# Altium schematic symbol library Fuses.SchLib: 6 symbols
Pins are listed as number, name and electrical type; pins without a type are passive.

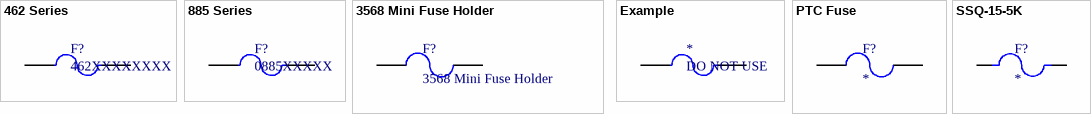
[diagram p0: symbols 462 Series to SSQ-15-5K]

## 462 Series
designator F?, comment 462XXXXXXXX
Littelfuse DC Fuse Board Mount (Cartridge Style Excluded) Surface Mount 2-SMD, Square End Block; IInterrupt: 100; VMax: 350; ITrip: *; ComponentLink1Description: Littelfuse; ComponentLink1URL: https://www.littelfuse.com/products/fuses/surface-mount-fuses/nano-2-fuses/462.aspx
footprint Littelfuse_462Series
pins: 1, 2

## 885 Series
designator F?, comment 0885XXXXX
Littelfuse DC Fuse Board Mount (Cartridge Style Excluded) Surface Mount 2-SMD, Square End Block; IInterrupt: 1500; VMax: 500; ITrip: *; ComponentLink1Description: Littelfuse; ComponentLink1URL: https://www.littelfuse.com/products/fuses/surface-mount-fuses/nano-2-fuses/885.aspx
footprint Littelfuse_885Series
pins: 1, 2

## 3568 Mini Fuse Holder
designator F?
Fuse Holder 30A 500V 1 Circuit Blade Through Hole; ComponentLink1Description: Digikey; ComponentLink1URL: https://www.digikey.com/product-detail/en/keystone-electronics/3568/36-3568-ND/2137306; Max Current: 30A; Max Voltage: 500V
footprint 3568MiniFuseHolder
pins: 1, 2

## Example
designator *, comment DO NOT USE
ITrip: *; IInterrupt: *; VMax: *
pins: 1, 2

## PTC Fuse
designator F?
Generic PTC fuse footprints. Add; Current - Hold (Ih): *; Current - Trip (It): *; Voltage - Max: *; Resistance - Initial (Ri) (Min): *; Resistance - Post Trip (R1) (Max): *
footprint 1812_PTC_FUSE
footprint 0805_PTC_FUSE
pins: 1, 2

## SSQ-15-5K
designator F?
2410 SMT Fuse | Quick Acting; MP: SSQ-15-5K; Package: None; Price: None; Value: *; Availability: Unavailable
footprint FUSC6125X264N
pins: 1, 2